# EAGLE library part 10118192-0002LF (library USB connector)
CONN RCPT USB2.0 MICRO B SMD R/A Manufacturer's datasheet <https://www.amphenol-icc.com/media/wysiwyg/files/drawing/10118192.pdf>
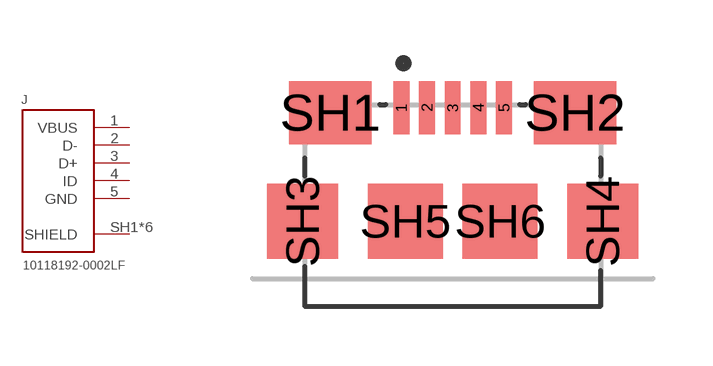
[diagram p8: symbol with the pads of 10118192-0002LF; footprint 10118192-0002LF]

Designator prefix J

## 10118192-0002LF (CREATED_BY: PCBLayout.com; DIGIKEY_PARTNO: 609-5379-2-ND; MANUFACTURER: Amphenol ICC (FCI); MPN: 10118192-0002LF)  [10118192-0002LF]
1  VBUS  pas
2  D-  pas
3  D+  pas
4  ID  pas
5  GND  pas
SH1  SHIELD  pwr
SH2  SHIELD  pwr
SH3  SHIELD  pwr
SH4  SHIELD  pwr
SH5  SHIELD  pwr
SH6  SHIELD  pwr

## Footprint 10118192-0002LF (pad centres in mm)
smd 0.4 x 1.35: 1 -1.3,2.875; 2 -0.65,2.875; 3 0,2.875; 4 0.65,2.875; 5 1.3,2.875
smd 2.1 x 1.6: SH1 -3.1,2.75; SH2 3.1,2.75
smd 1.8 x 1.9: SH3 -3.8,0; SH4 3.8,0
smd 1.9 x 1.9: SH5 -1.2,0; SH6 1.2,0